# Altium footprint library PcbLib1.PcbLib: 1 footprints
Each footprint in its own frame and in the unit in brackets; x right, y up, seen from the top. Pads: shape width x height; smd on the part's side, far side on the other; paste and mask are expansions set on the pad; w line width, h text height; cw(c..) or ccw(c..) is an arc to the next point about the centre after c.
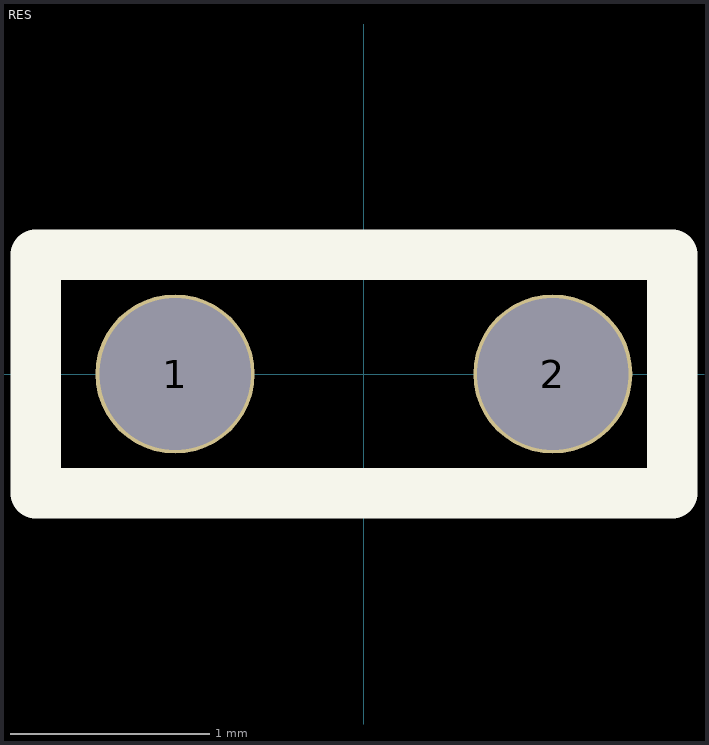
[diagram p0: the footprint, top view; thin cyan lines are the x and y axes]

## RES [mm]
pads (2):
  round 0.8 hole 0.762: 1(-0.95,0) 2(0.95,0)
Top Overlay:
  lines w0.254: -1.65,-0.6 -1.65,0.6 -1.45,0.6 1.55,0.6 1.55,-0.6 -1.65,-0.6